# EAGLE library part 750314460 (library Midcom Inc - EAGLE Lib V2-0)
Package Style: ER11.5 Mounting: SMD Pins: 12 pins Bobbin: 070-6058 Best pinouts for production vary per application. Please contact Wurth Electronics Midcom, Inc. for assistance with your custom design. Website: Wurth Electronics Midcom <http://www.we-online.com/midcom> Contact us Wurth Electronics Midcom, Inc. 121 Airport Dr. Watertown, SD 57201 Phone: (605) 886-4385 Fax: (605) 886-4486 E-Mail: midcom@we-online.com
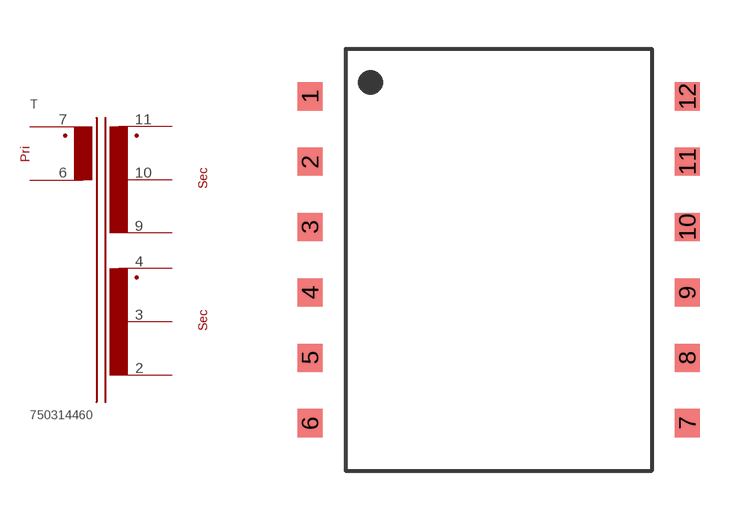
[diagram p125: symbol with the pads of ER11.5_SMD_V_12PIN_(6058); footprint ER11.5_SMD_V_12PIN_(6058)]

Designator prefix T

## 750314460  [ER11.5_SMD_V_12PIN_(6058)]
2  2  pas
3  3  pas
4  4  pas
6  6  pas
7  7  pas
9  9  pas
10  10  pas
11  11  pas

## Footprint ER11.5_SMD_V_12PIN_(6058) (pad centres in mm)
Package Style: ER11.5 Mounting: SMD Pins: 12 Bobbin: 070-6058
smd 0.762 x 0.864: 1 -5.791,5.016; 2 -5.791,3.01; 3 -5.791,1.003; 4 -5.791,-1.003; 5 -5.791,-3.01; 6 -5.791,-5.016; 7 5.791,-5.016; 8 5.791,-3.01; 9 5.791,-1.003; 10 5.791,1.003; 11 5.791,3.01; 12 5.791,5.016